# EAGLE library part LCD_0802_LED (library #PaJa_displeje)
LCD - 2x8 + LED
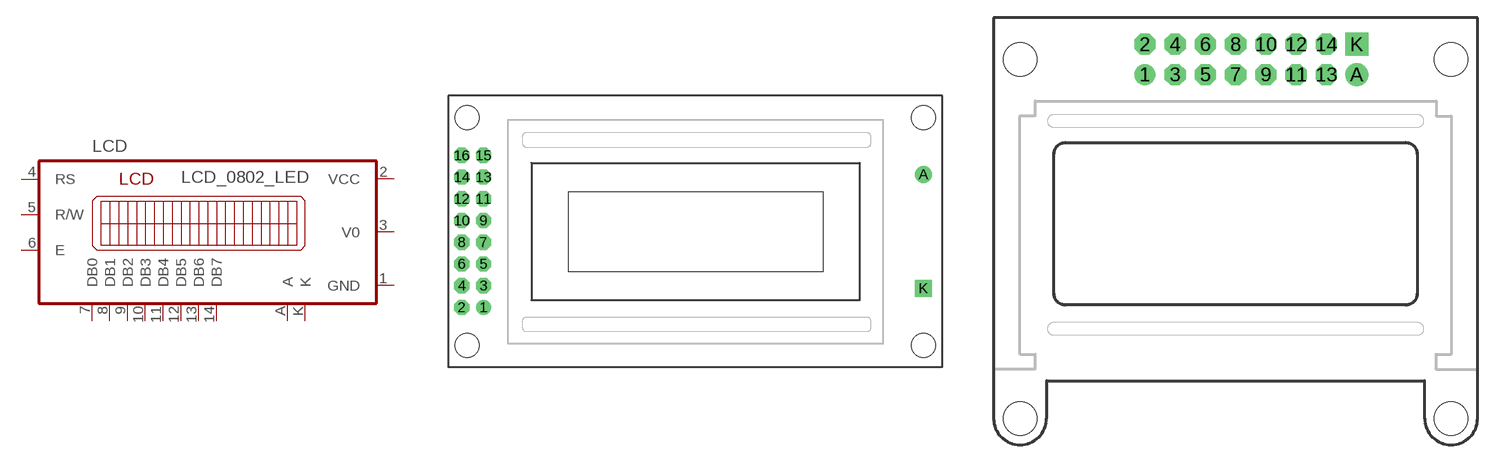
[diagram p3: symbol with the pads of PLC0802AW; footprints PLC0802AW, MC0802A-SYL]

Designator prefix LCD

## LCD_0802_LEDPLC0802A  [PLC0802AW]
1  GND  pwr
2  VCC  pwr
3  V0  pwr
4  RS  in
5  R/W  in
6  E  in
7  DB0  pas
8  DB1  pas
9  DB2  pas
10  DB3  pas
11  DB4  pas
12  DB5  pas
13  DB6  pas
14  DB7  pas
A  A  pas
K  K  pas

## LCD_0802_LEDMC0802A  [MC0802A-SYL]
Pads as for PLC0802AW

## Footprint PLC0802AW (pad centres in mm)
drill 0.9 pad 1.778: 1 -24.765,-8.89
drill 0.9 pad 1.778 octagon: 2 -27.305,-8.89; 3 -24.765,-6.35; 4 -27.305,-6.35; 5 -24.765,-3.81; 6 -27.305,-3.81; 7 -24.765,-1.27; 8 -27.305,-1.27; 9 -24.765,1.27; 10 -27.305,1.27; 11 -24.765,3.81; 12 -27.305,3.81; 13 -24.765,6.35; 14 -27.305,6.35; 15 -24.765,8.89; 16 -27.305,8.89
drill 0.9 pad 2: A 26.67,6.668
drill 0.9 pad 2 square: K 26.67,-6.668
hole 2.8 at -26.67,-13.335
hole 2.8 at 26.67,-13.335
hole 2.8 at 26.67,13.335
hole 2.8 at -26.67,13.335

## Footprint MC0802A-SYL (pad centres in mm)
drill 0.9 pad 1.778: 1 -7.62,12.7
drill 0.9 pad 1.778 octagon: 2 -7.62,15.24; 3 -5.08,12.7; 4 -5.08,15.24; 5 -2.54,12.7; 6 -2.54,15.24; 7 0,12.7; 8 0,15.24; 9 2.54,12.7; 10 2.54,15.24; 11 5.08,12.7; 12 5.08,15.24; 13 7.62,12.7; 14 7.62,15.24
drill 0.9 pad 1.93: A 10.16,12.7
drill 0.9 pad 1.93 square: K 10.16,15.24
hole 2.8 at -18.098,-16.192
hole 2.8 at 18.098,-16.192
hole 2.8 at 18.098,13.97
hole 2.8 at -18.098,13.97